# EAGLE library part TPS5430 (library ds_ic_vreg)
TPS543x 3A, Wide Input Range, Step-Down Converter
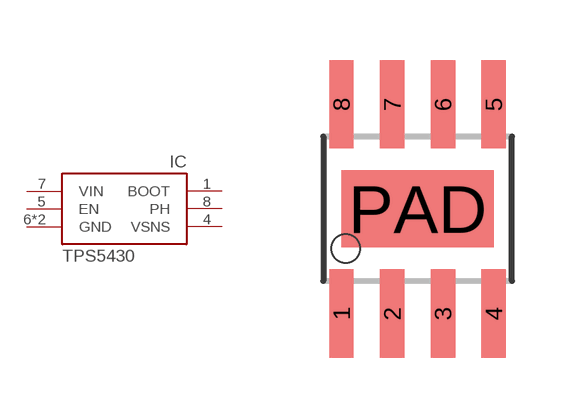
[diagram p9: symbol with the pads of SO8P; footprint SO8P]

Designator prefix IC

## TPS5430  [SO8P]
1  BOOT
4  VSNS
5  EN
6  GND
7  VIN
8  PH
PAD  GND

## Footprint SO8P (pad centres in mm)
smd 0.61 x 2.21: 1 -1.905,-2.616; 2 -0.635,-2.616; 3 0.635,-2.616; 4 1.905,-2.616; 5 1.905,2.616; 6 0.635,2.616; 7 -0.635,2.616; 8 -1.905,2.616
smd 3.81 x 1.93: PAD 0,0